# EAGLE library part MOSFET_PCH_DUAL (library SparkFun-DiscreteSemi)
Dual P-Channel -20VDS MOSFET Link to datasheet <http://www.diodes.com/_files/datasheets/ds31197.pdf> SparkFun Products: SparkFun FreeSoC2 Development Board <https://www.sparkfun.com/products/13229>
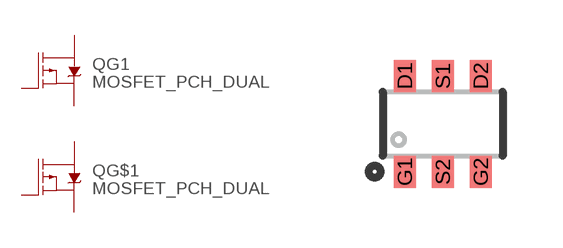
[diagram p6: symbol with the pads of SOT26; footprint SOT26]

Designator prefix Q; gates G1=LABELED-PMOS G$1=LABELED-PMOS

## MOSFET_PCH_DUAL-DMP2240UDM (PROD_ID: TRANS-12444; VALUE: 2A/20V/150mΩ)  [SOT26]
D1  G1:D
D2  G$1:D
G1  G1:G
G2  G$1:G
S1  G1:S
S2  G$1:S

## Footprint SOT26 (pad centres in mm)
Footprint for SOT-26 part DMP2240UDM
smd 0.55 x 0.8: D1 -0.95,1.2; D2 0.95,1.2; G1 -0.95,-1.2; G2 0.95,-1.2; S1 0,1.2; S2 0,-1.2